# Altium footprint library Controller.PcbLib: 23 footprints (part 2 of 2)
Each footprint in its own frame and in the unit in brackets; x right, y up, seen from the top. Pads: shape width x height; smd on the part's side, far side on the other; paste and mask are expansions set on the pad; w line width, h text height; cw(c..) or ccw(c..) is an arc to the next point about the centre after c.
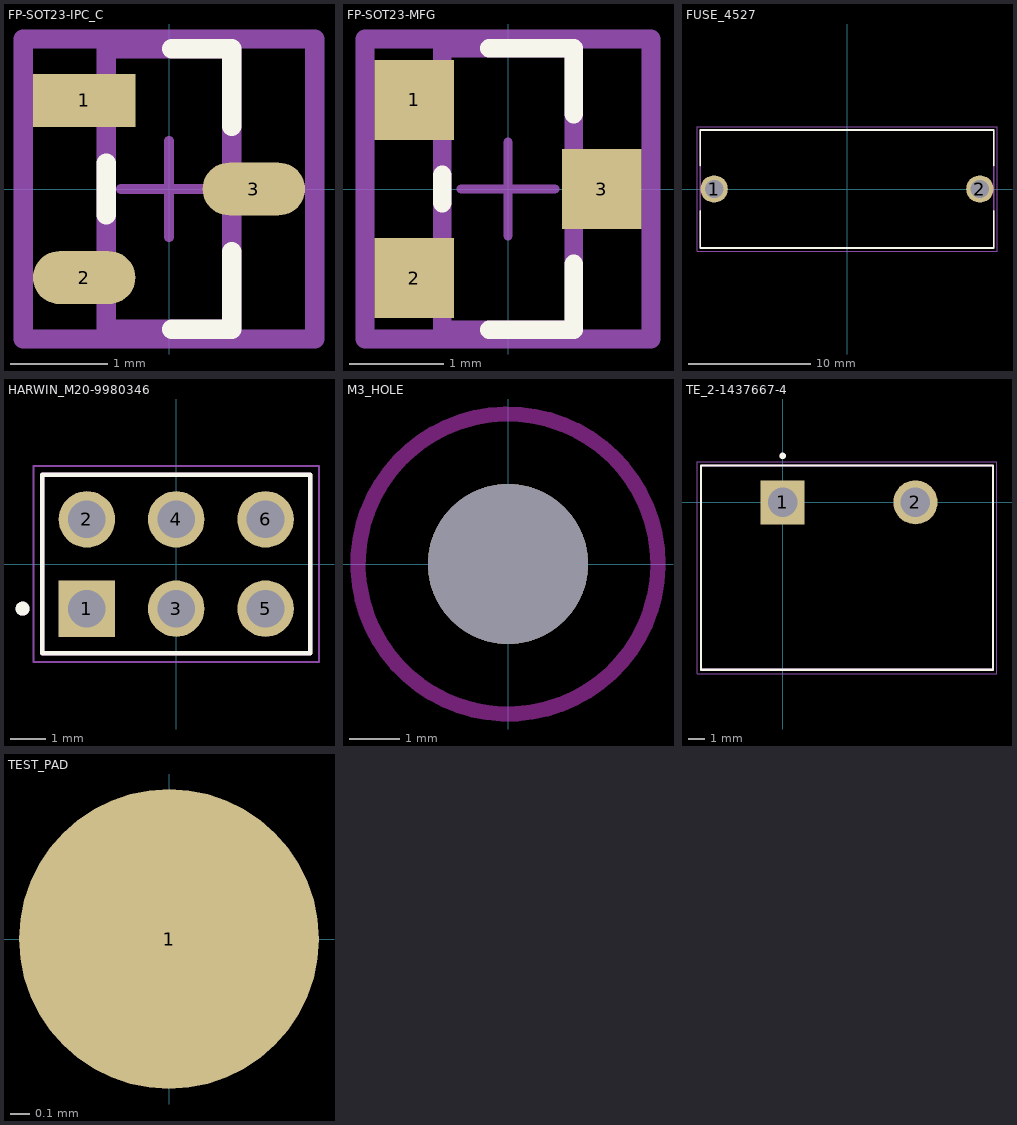
[diagram p1: the footprints below, top view; thin cyan lines are the x and y axes]

## FP-SOT23-IPC_C [mm]
height 1
pads (3):
  rect 1.059x0.547 smd paste+0 mask+0: 1(-0.877,0.915)
  rrect100% 1.059x0.547 smd paste+0 mask+0: 2(-0.877,-0.915) 3(0.877,0)
Top Overlay:
  lines w0.2: -0.65,-0.267 -0.65,0.267 ; 0.028,-1.45 0.65,-1.45 0.65,-0.648 ; 0.028,1.45 0.65,1.45 0.65,0.648
Top Assembly:
  lines w0.2: -1.506,-1.55 -1.506,1.55 1.506,1.55 1.506,-1.55 -1.506,-1.55
  text ".Designator" at 0,-0.001 h1
Top 3D Body:
  lines w0.2: -0.65,-1.45 -0.65,1.45 0.65,1.45 0.65,-1.45 -0.65,-1.45
Top Courtyard:
  lines w0.2: -1.506,-1.55 -1.506,1.55 1.506,1.55 1.506,-1.55 -1.506,-1.55
Top Component Center:
  lines w0.1: -0.5,0 0.5,0 ; 0,-0.5 0,0.5
3D body "Trans_Diodes_Inc_DMP4065S-7_eec.STEP": height 0.25, standoff 0, extent -1.506,-1.55 1.506,1.55

## FP-SOT23-MFG [mm]
pads (3):
  rect 0.85x0.85 smd paste+0 mask+0: 1(-1,0.95) 2(-1,-0.95) 3(1,0)
Top Overlay:
  lines w0.2: -0.7,-0.15 -0.7,0.15 ; -0.2,-1.5 0.7,-1.5 0.7,-0.8 ; -0.2,1.5 0.7,1.5 0.7,0.8
Top Assembly:
  lines w0.2: -1.525,-1.6 1.525,-1.6 1.525,1.6 -1.525,1.6 -1.525,-1.6
  text ".Designator" at 0,-0.001 h1
Top 3D Body:
  lines w0.2: -0.7,-1.5 0.7,-1.5 0.7,1.5 -0.7,1.5 -0.7,-1.5
Top Courtyard:
  lines w0.2: -1.525,-1.6 1.525,-1.6 1.525,1.6 -1.525,1.6 -1.525,-1.6
Top Component Center:
  lines w0.1: -0.5,0 0.5,0 ; 0,-0.5 0,0.5
3D body "Diode_Bourns_Inc_CDSOT23-SM712_eec.STEP": height 0.25, standoff 0, extent -1.525,-1.6 1.525,1.6

## FUSE_4527 [mm]
height 10.8
pads (2):
  round 2.25 hole 1.5: 1(-10.92,0) 2(10.92,0)
Top Overlay:
  lines w0.127: -12.08,-1.778 -12.08,-4.85 12.08,-4.85 12.08,-1.778 ; -12.08,1.905 -12.08,4.85 12.08,4.85 12.08,1.905
Top 3D Body:
  lines w0.127: -12.08,-4.85 -12.08,4.85 12.08,4.85 12.08,-4.85 -12.08,-4.85
Top Courtyard:
  lines w0.05: -12.33,-5.1 -12.33,5.1 12.33,5.1 12.33,-5.1 -12.33,-5.1
3D body "step_temp.STEP": height 10.79, standoff -4.17, extent -12.078,-4.851 12.078,4.851

## HARWIN_M20-9980346 [mm]
pads (6):
  rect 1.605x1.605 / inner round 1.605 / far side rect 1.605x1.605 hole 1.07: 1(-2.54,-1.27)
  round 1.605 hole 1.07: 2(-2.54,1.27) 3(0,-1.27) 4(0,1.27) 5(2.54,-1.27) 6(2.54,1.27)
Top Overlay:
  circle w0.2: c-4.37,-1.27 r0.1
  lines w0.127: -3.81,-2.54 3.81,-2.54 3.81,2.54 -3.81,2.54 -3.81,-2.54
Top 3D Body:
  circle w0.2: c-4.37,-1.27 r0.1
  lines w0.127: -3.81,-2.54 3.81,-2.54 3.81,2.54 -3.81,2.54 -3.81,-2.54
Top Courtyard:
  lines w0.05: -4.06,-2.79 -4.06,2.79 4.06,2.79 4.06,-2.79 -4.06,-2.79
3D body "m20-9980346.stp": height 8.64, standoff -3.04, extent -3.81,-2.54 3.81,2.54

## M3_HOLE [mm]
pads (1):
  round 3.2 hole 3.2 unplated: ""(0,0)
Keep-Out Layer:
  lines w0.305: 2.999,-0.057 cw(c0,0) 3,0

## TE_2-1437667-4 [mil]
pads (2):
  rect 108x108 hole 72: 1(0,0)
  round 108 hole 72: 2(325,0)
Top Overlay:
  circle w7.87: c0,113.78 r3.94
  lines w5: -200,-410 -200,90 515,90 515,-410 -200,-410
Top 3D Body:
  circle w7.87: c0,113.78 r3.94
  lines w5: -200,-410 -200,90 515,90 515,-410 -200,-410
Top Courtyard:
  lines w1.97: -209.84,-419.84 524.84,-419.84 524.84,99.84 -209.84,99.84 -209.84,-419.84
3D body "c-2-1437667-4-n-3d.stp": height 570, standoff -160, extent -200.02,-409.45 514.98,90.55

## TEST_PAD [mil]
pads (1):
  round 60 smd: 1(0,0)